# EAGLE library part MRF24J40 (library 000001)
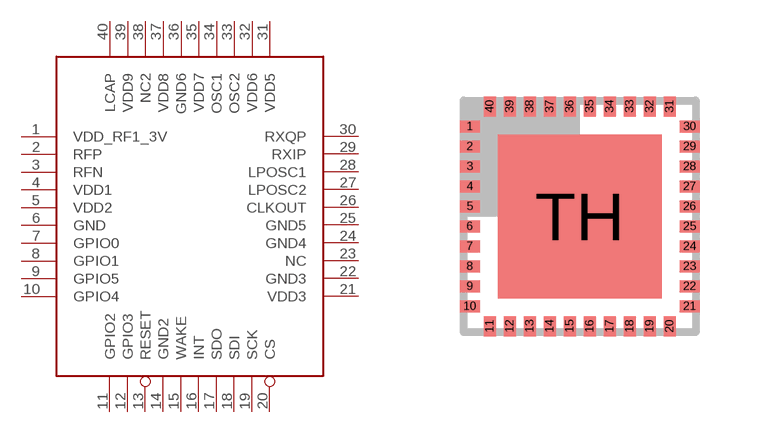
[diagram p30: symbol with the pads of HVQFN40; footprint HVQFN40]

Designator prefix -

## MRF24J40  [HVQFN40]
1  VDD_RF1_3V
2  RFP
3  RFN
4  VDD1  pwr
5  VDD2  pwr
6  GND  pwr
7  GPIO0
8  GPIO1
9  GPIO5
10  GPIO4
11  GPIO2
12  GPIO3
13  RESET
14  GND2  pwr
15  WAKE
16  INT
17  SDO
18  SDI
19  SCK
20  CS
21  VDD3  pwr
22  GND3  pwr
23  NC  nc
24  GND4  pwr
25  GND5  pwr
26  CLKOUT
27  LPOSC2
28  LPOSC1
29  RXIP
30  RXQP
31  VDD5  pwr
32  VDD6  pwr
33  OSC2
34  OSC1
35  VDD7  pwr
36  GND6  pwr
37  VDD8  pwr
38  NC2  nc
39  VDD9  pwr
40  LCAP

## Footprint HVQFN40 (pad centres in mm)
HVQFN40 plastic thermal enhanced very thin quad flat package SOT618-1 no leads; 40 terminals; body 6 x 6 x 0.85 mm Source: http://www.semiconductors.philips.com/acrobat_download/packages/SOT618-1.pdf
smd 0.5 x 0.3: 1 -2.75,2.25; 2 -2.75,1.75; 3 -2.75,1.25; 4 -2.75,0.75; 5 -2.75,0.25; 6 -2.75,-0.25; 7 -2.75,-0.75; 8 -2.75,-1.25; 9 -2.75,-1.75; 10 -2.75,-2.25; 21 2.75,-2.25; 22 2.75,-1.75; 23 2.75,-1.25; 24 2.75,-0.75; 25 2.75,-0.25; 26 2.75,0.25; 27 2.75,0.75; 28 2.75,1.25; 29 2.75,1.75; 30 2.75,2.25
smd 0.3 x 0.5: 11 -2.25,-2.75; 12 -1.75,-2.75; 13 -1.25,-2.75; 14 -0.75,-2.75; 15 -0.25,-2.75; 16 0.25,-2.75; 17 0.75,-2.75; 18 1.25,-2.75; 19 1.75,-2.75; 20 2.25,-2.75; 31 2.25,2.75; 32 1.75,2.75; 33 1.25,2.75; 34 0.75,2.75; 35 0.25,2.75; 36 -0.25,2.75; 37 -0.75,2.75; 38 -1.25,2.75; 39 -1.75,2.75; 40 -2.25,2.75
smd 4.1 x 4.1: TH 0,0